# Altium footprint library A.PcbLib: 25 footprints (part 2 of 2)
Each footprint in its own frame and in the unit in brackets; x right, y up, seen from the top. Pads: shape width x height; smd on the part's side, far side on the other; paste and mask are expansions set on the pad; w line width, h text height; cw(c..) or ccw(c..) is an arc to the next point about the centre after c.
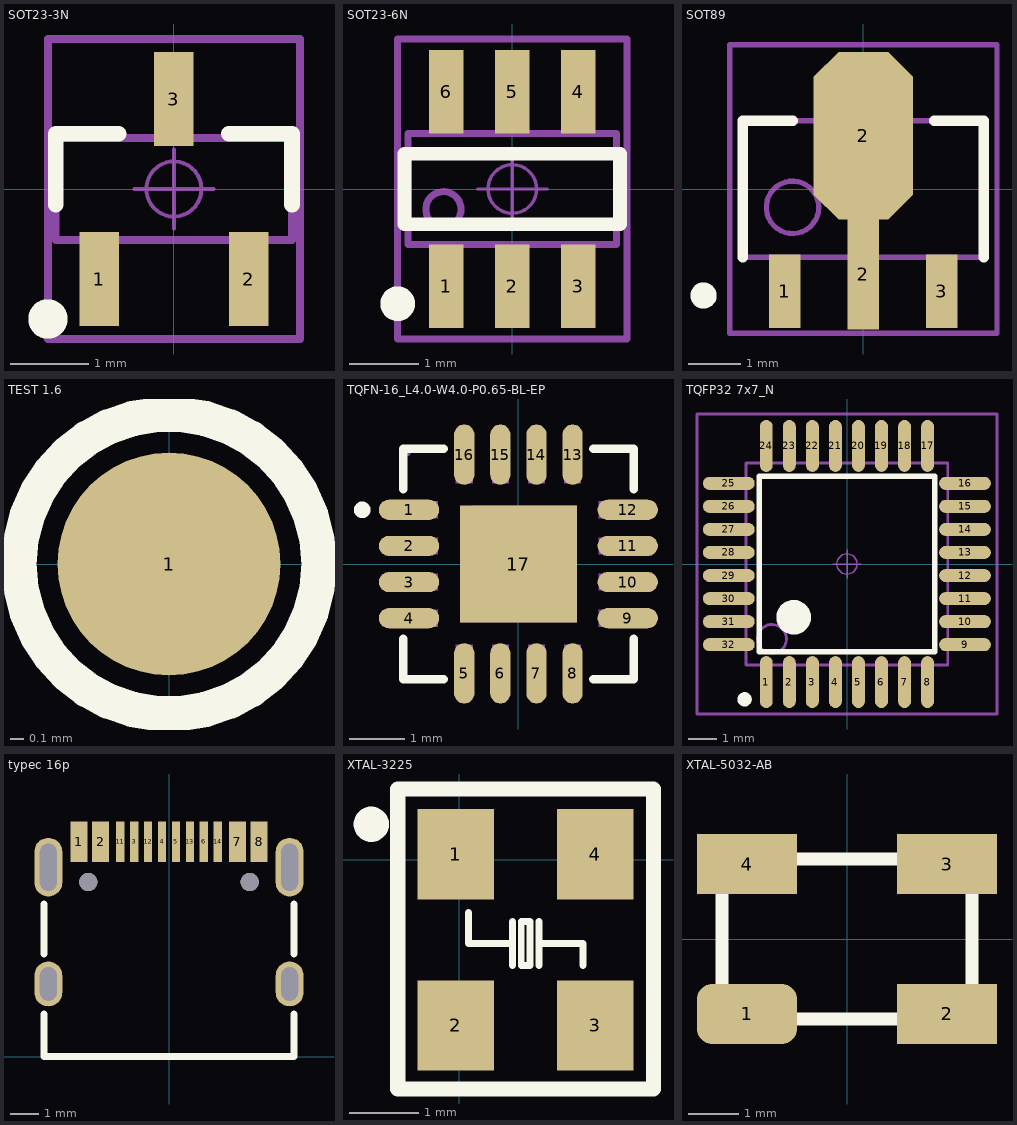
[diagram p1: the footprints below, top view; thin cyan lines are the x and y axes]

## SOT23-3N [mm] "3x1.3x1mm(长宽高)"
height 1.1
pads (3):
  rect 0.5x1.2 smd: 1(-0.95,-1.143) 2(0.95,-1.143) 3(0,1.143)
Top Overlay:
  circle w0.25: c-1.6,-1.651 r0.125
  lines w0.2: -1.501,-0.2 -1.501,0.7 -0.701,0.7 ; 0.699,0.7 1.499,0.7 1.499,-0.2
Mechanical 13:
  lines w0.1: -1.5,-0.65 1.5,-0.65 1.5,0.65 -1.5,0.65 -1.5,-0.65
Mechanical 15:
  circle w0.05: c0,0 r0.35
  lines w0.05: -0.5,0 0.5,0 ; 0,-0.5 0,0.5
  lines w0.1: -1.6,-1.905 1.6,-1.905 1.6,1.905 -1.6,1.905 -1.6,-1.905
3D body "SOT23-3.STEP": height 1.05, standoff 0, extent -1.5,-1.2 1.5,1.2

## SOT23-6N [mm] "3x1.6x1.1mm(长宽高)"
height 1.45
pads (6):
  rect 0.5x1.2 smd: 1(-0.95,-1.4) 2(0,-1.4) 3(0.95,-1.4) 4(0.95,1.4) 5(0,1.4) 6(-0.95,1.4)
Top Overlay:
  circle w0.25: c-1.651,-1.651 r0.125
  lines w0.2: -1.55,-0.508 -1.55,0.508 1.55,0.508 1.55,-0.508 -1.55,-0.508
Mechanical 13:
  circle w0.1: c-0.992,-0.292 r0.254
  lines w0.1: -1.5,-0.8 1.5,-0.8 1.5,0.8 -1.5,0.8 -1.5,-0.8
Mechanical 15:
  circle w0.05: c0,0 r0.35
  lines w0.05: -0.5,0 0.5,0 ; 0,-0.5 0,0.5
  lines w0.1: -1.651,-2.159 1.651,-2.159 1.651,2.159 -1.651,2.159 -1.651,-2.159
3D body "SOT23-6.STEP": height 1.15, standoff -0.03, extent -1.5,-1.403 1.5,1.403

## SOT89 [mm] "SOT89, 3-Leads, Body 4.5x2.4 mm, Pitch 1.5mm, Lead Span 4.1mm, IPC Medium Density"
height 1.6
pads (4):
  rect 0.6x1.4 smd: 1(-1.5,-1.952) 3(1.5,-1.952)
  rect 0.6x2.1 smd: 2(0,-1.626)
  oct 1.9x3.2 smd: 2(0,1.016)
Top Overlay:
  circle w0.25: c-3.048,-2.032 r0.125
  lines w0.2: -2.3,-1.3 -2.3,1.3 -1.35,1.3 ; 1.35,1.3 2.3,1.3 2.3,-1.3
Mechanical 13:
  circle w0.1: c-1.35,-0.35 r0.5
  lines w0.1: -2.3,-1.3 -2.3,1.3 2.3,1.3 2.3,-1.3 -2.3,-1.3
Mechanical 15:
  lines w0.1: -0.5,0 0.5,0 ; 0,-0.5 0,0.5 ; -2.55,-2.75 -2.55,2.75 2.55,2.75 2.55,-2.75 -2.55,-2.75
3D body "SOT89.STEP": height 1.64, standoff 0.03, extent -2.314,-2.227 2.286,2.023

## TEST 1.6 [mm] "测试点1.6mm"
pads (1):
  round 1.6 smd: 1(0,0)
Top Overlay:
  circle w0.254: c0,0 r1.078

## TQFN-16_L4.0-W4.0-P0.65-BL-EP [mm]
pads (17):
  oval 1.087x0.364 smd: 1(-1.968,0.975) 2(-1.968,0.325) 3(-1.968,-0.325) 4(-1.968,-0.975) 9(1.968,-0.975) 10(1.968,-0.325) 11(1.968,0.325) 12(1.968,0.975)
  oval 0.364x1.087 smd: 5(-0.975,-1.968) 6(-0.325,-1.968) 7(0.325,-1.968) 8(0.975,-1.968) 13(0.975,1.968) 14(0.325,1.968) 15(-0.325,1.968) 16(-0.975,1.968)
  rect 2.1x2.1 smd: 17(0,0)
Top Overlay:
  circle w0.15: c-2.812,0.975 r0.075
  lines w0.152: -2.076,-1.347 -2.076,-2.076 -1.347,-2.076 ; -2.076,1.347 -2.076,2.076 -1.347,2.076 ; 1.347,-2.076 2.076,-2.076 2.076,-1.347 ; 1.347,2.076 2.076,2.076 2.076,1.347
Mechanical 5:
  region: -0.84,1.05 1.05,1.05 1.05,-1.05 -1.05,-1.05 -1.05,0.84
  region: -1.125,1.45 -0.825,1.45 -0.825,2 -1.125,2
  region: -0.475,1.45 -0.175,1.45 -0.175,2 -0.475,2
  region: 0.175,1.45 0.475,1.45 0.475,2 0.175,2
  region: 0.825,1.45 1.125,1.45 1.125,2 0.825,2
  region: 2,1.125 1.45,1.125 1.45,0.825 2,0.825
  region: 2,0.475 1.45,0.475 1.45,0.175 2,0.175
  region: 2,-0.175 1.45,-0.175 1.45,-0.475 2,-0.475
  region: 2,-0.825 1.45,-0.825 1.45,-1.125 2,-1.125
  region: 0.825,-1.45 1.125,-1.45 1.125,-2 0.825,-2
  region: 0.175,-1.45 0.475,-1.45 0.475,-2 0.175,-2
  region: -0.475,-1.45 -0.175,-1.45 -0.175,-2 -0.475,-2
  region: -1.125,-1.45 -0.825,-1.45 -0.825,-2 -1.125,-2
  region: -2,-0.825 -1.45,-0.825 -1.45,-1.125 -2,-1.125
  region: -2,-0.175 -1.45,-0.175 -1.45,-0.475 -2,-0.475
  region: -2,0.475 -1.45,0.475 -1.45,0.175 -2,0.175
  region: -2,1.125 -1.45,1.125 -1.45,0.825 -2,0.825
Mechanical 6:
  circle w0.06: c-2,2 r0.03
Mechanical 15:
  circle w0.15: c-2.3,0.975 r0.075

## TQFP32 7x7_N [mm] "32脚，体宽：7x7mm, 脚距：0.8mm"
height 1.2
pads (32):
  oval 0.45x1.8 smd: 1(-2.803,-4.1) 2(-2.003,-4.1) 3(-1.203,-4.1) 4(-0.403,-4.1) 5(0.397,-4.1) 6(1.197,-4.1) 7(1.997,-4.1) 8(2.797,-4.1) 17(2.797,4.1) 18(1.997,4.1) 19(1.197,4.1) 20(0.397,4.1) 21(-0.403,4.1) 22(-1.203,4.1) 23(-2.003,4.1) 24(-2.803,4.1)
  oval 1.8x0.45 smd: 9(4.097,-2.8) 10(4.097,-2) 11(4.097,-1.2) 12(4.097,-0.4) 13(4.097,0.4) 14(4.097,1.2) 15(4.097,2) 16(4.097,2.8) 25(-4.103,2.8) 26(-4.103,2) 27(-4.103,1.2) 28(-4.103,0.4) 29(-4.103,-0.4) 30(-4.103,-1.2) 31(-4.103,-2) 32(-4.103,-2.8)
Top Overlay:
  circle w0.25: c-3.556,-4.699 r0.125
  circle w0.6: c-1.853,-1.85 r0.3
  lines w0.2: -3.048,-3.048 3.048,-3.048 3.048,3.048 -3.048,3.048 -3.048,-3.048
Mechanical 13:
  circle w0.1: c-2.603,-2.6 r0.5
  lines w0.1: -3.503,-3.5 3.497,-3.5 3.497,3.5 -3.503,3.5 -3.503,-3.5
Mechanical 15:
  circle w0.05: c0,0 r0.35
  lines w0.05: -0.5,0 0.5,0 ; 0,-0.5 0,0.5
  lines w0.1: -5.207,-5.207 5.207,-5.207 5.207,5.207 -5.207,5.207 -5.207,-5.207
3D body "TQFP32 7x7.STEP": height 1.05, standoff 0, extent -4.505,-4.502 4.499,4.502

## typec 16p [mm]
height 3.2
pads (18):
  rect 0.6x1.45 smd: 1(-3.225,7.695) 2(-2.45,7.695) 7(2.45,7.695) 8(3.225,7.695)
  rect 0.3x1.45 smd: 3(-1.25,7.695) 4(-0.25,7.695) 5(0.25,7.695) 6(1.25,7.695) 11(-1.75,7.695) 12(-0.75,7.695) 13(0.75,7.695) 14(1.75,7.695)
  oval 1x1.6 hole 0.6 slot 1.2 at 90 deg: ""(-4.32,2.6) ""(4.32,2.6)
  oval 1x2.1 hole 0.6 slot 1.7 at 90 deg: ""(-4.32,6.78) ""(4.32,6.78)
  round 0.65 hole 0.65 unplated: ""(-2.89,6.25) ""(2.89,6.25)
Top Overlay:
  lines w0.254: -4.47,1.524 -4.47,0 4.47,0 4.47,1.524 ; -4.47,3.683 -4.47,5.461 ; 4.47,3.683 4.47,5.461

## XTAL-3225 [mm]
pads (4):
  rect 1.1x1.3 smd: 1(-0.051,0.076) 2(-0.051,-2.388) 3(1.956,-2.388) 4(1.956,0.076)
Top Overlay:
  circle w0.254: c-1.27,0.508 r0.127
  lines w0.1: 0.127,-0.762 0.127,-1.206 0.762,-1.206 ; 0.762,-1.524 0.762,-0.889 ; 1.143,-1.524 1.143,-0.889 ; 1.143,-1.206 1.778,-1.206 1.778,-1.524 ; 0.889,-1.524 0.889,-0.889 1.016,-0.889 1.016,-1.524 0.889,-1.524
  lines w0.22: -0.889,-3.302 2.794,-3.302 2.794,1.016 -0.889,1.016 -0.889,-3.302
3D body "XTAL-3225.STEP": height 0.8, standoff 0, extent -0.336,-2.743 2.164,0.457

## XTAL-5032-AB [mm]
pads (4):
  rrect50% 2x1.2 smd: 1(-2,-1.5)
  rect 2x1.2 smd: 2(2,-1.5) 3(2,1.5) 4(-2,1.5)
Top Overlay:
  lines w0.254: -2.5,-1.6 -2.5,1.6 2.5,1.6 2.5,-1.6 -2.5,-1.6
3D body "User Library-CRYSTALSMD5X32.STEP": height 1, standoff 0, extent -2.531,-1.609 2.469,1.591